# Altium footprint library PCB - LEADED - SOP - TI TSSOP-14 PW.pcblib: 1 footprints
Each footprint in its own frame and in the unit in brackets; x right, y up, seen from the top. Pads: shape width x height; smd on the part's side, far side on the other; paste and mask are expansions set on the pad; w line width, h text height; cw(c..) or ccw(c..) is an arc to the next point about the centre after c.
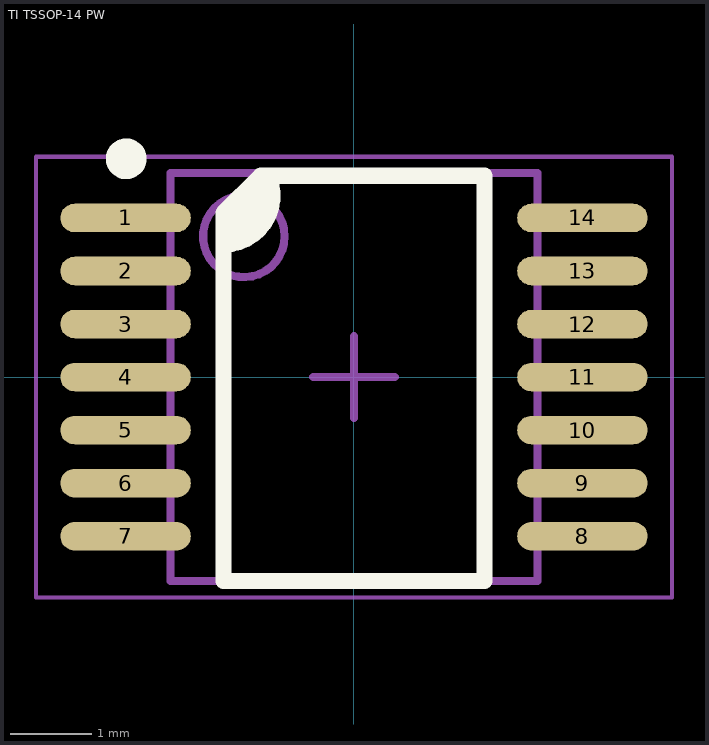
[diagram p0: the footprint, top view; thin cyan lines are the x and y axes]

## TI TSSOP-14 PW [mm] "TSSOP, 14-Leads, Body 5.00x4.40mm, Pitch 0.65mm, IPC Medium Density"
height 1.2
pads (14):
  oval 1.6x0.35 smd: 1(-2.8,1.95) 2(-2.8,1.3) 3(-2.8,0.65) 4(-2.8,0) 5(-2.8,-0.65) 6(-2.8,-1.3) 7(-2.8,-1.95) 8(2.8,-1.95) 9(2.8,-1.3) 10(2.8,-0.65) 11(2.8,0) 12(2.8,0.65) 13(2.8,1.3) 14(2.8,1.95)
Top Overlay:
  circle w0.25: c-2.792,2.675 r0.125
  region: -1.6,1.625 -1.525,1.625 -1.379,1.662 -1.247,1.733 -1.137,1.835 -1.056,1.961 -1.007,2.103 -0.996,2.253 -1.021,2.4 -1.051,2.469 -1.6,1.925
  lines w0.2: -1.6,1.625 ccw(c-1.6,2.225) -1.046,2.456 ; -1.6,-2.5 1.6,-2.5 1.6,2.469 -1.143,2.469 -1.6,2.012 -1.6,-2.5
Mechanical 13:
  circle w0.1: c-1.35,1.725 r0.5
  lines w0.1: -2.25,-2.5 -2.25,2.5 2.25,2.5 2.25,-2.5 -2.25,-2.5
Mechanical 15:
  lines w0.05: -3.9,-2.7 -3.9,2.7 3.9,2.7 3.9,-2.7 -3.9,-2.7
Mechanical 2 (Mech9):
  lines w0.1: -0.5,0 0.5,0 ; 0,-0.5 0,0.5
3D body "TSSOP-14.STEP": height 1.2, standoff 0, extent -3.21,-2.5 3.21,2.5